# Altium footprint library ATK-2014-09-12.PcbLib: 436 footprints (part 19 of 28)
Each footprint in its own frame and in the unit in brackets; x right, y up, seen from the top. Pads: shape width x height; smd on the part's side, far side on the other; paste and mask are expansions set on the pad; w line width, h text height; cw(c..) or ccw(c..) is an arc to the next point about the centre after c.
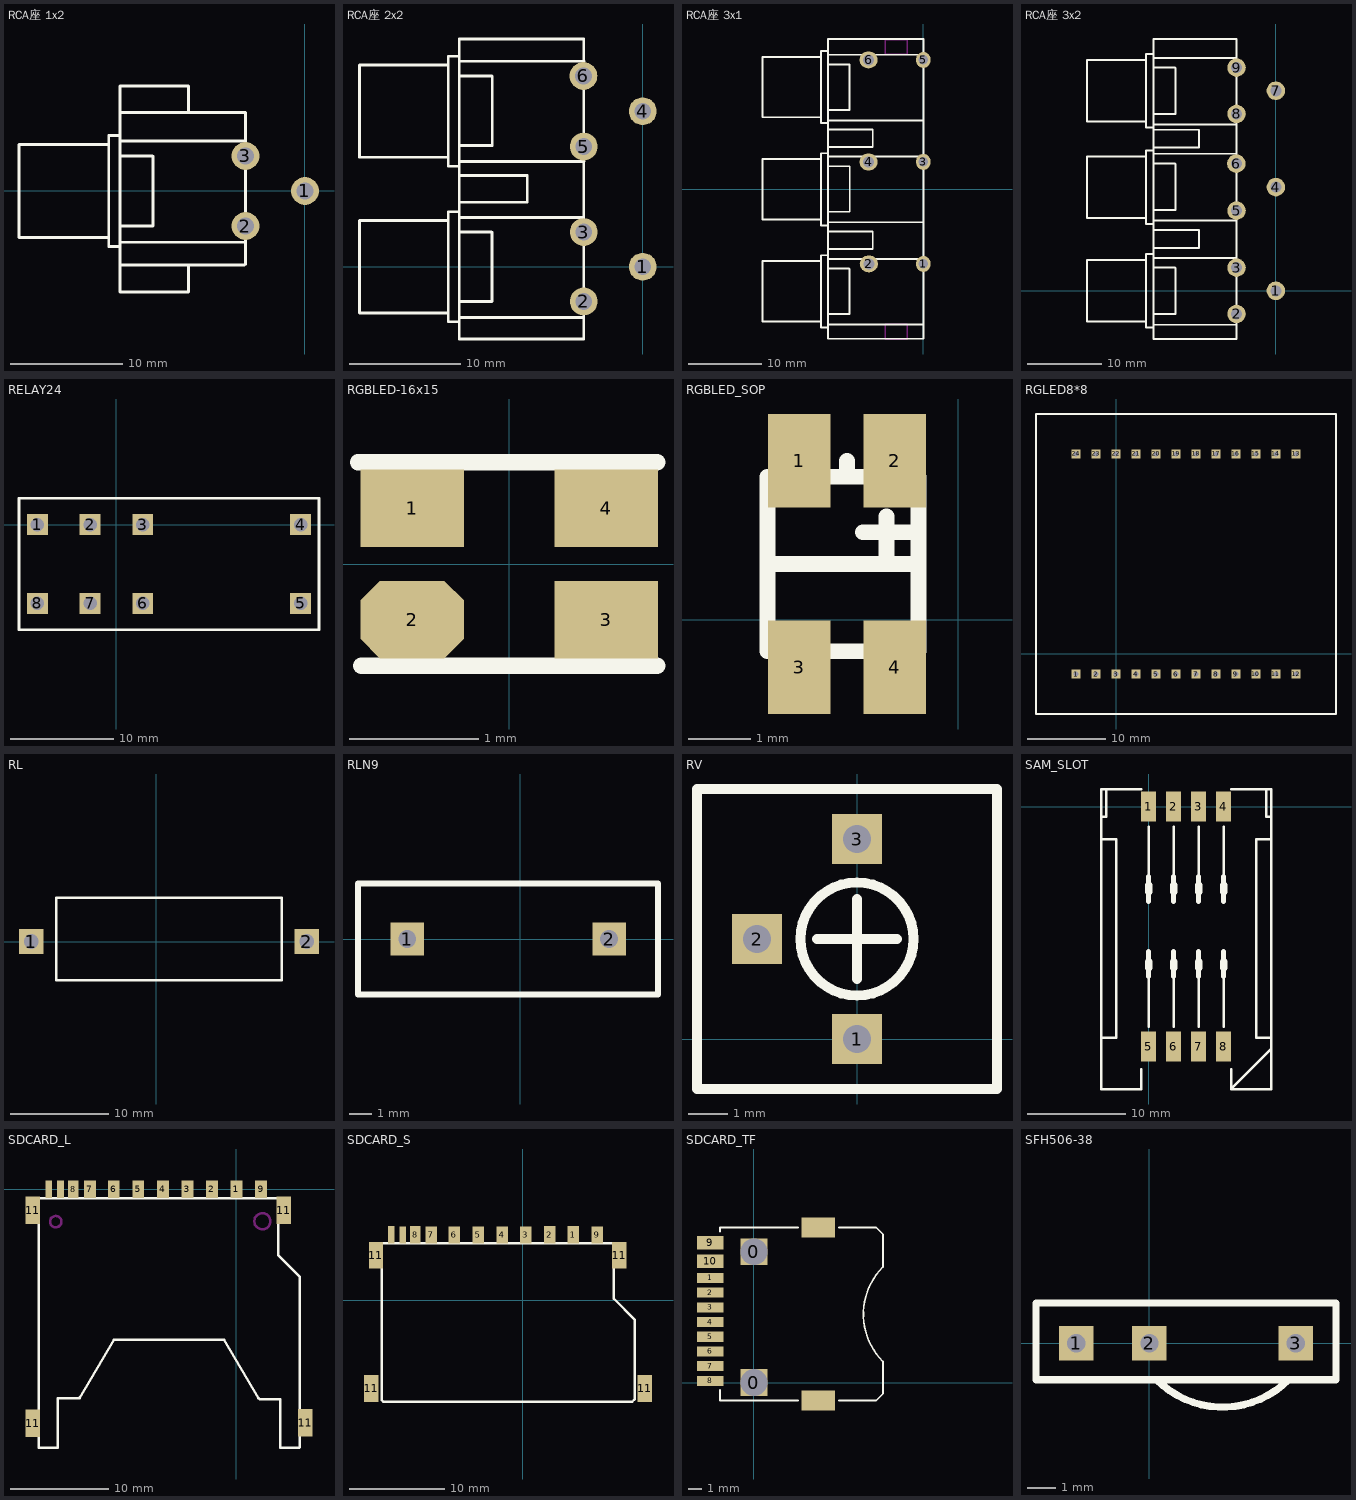
[diagram p18: the footprints below, top view; thin cyan lines are the x and y axes]

## RCA座 1x2 [mm]
pads (3):
  round 2.5 hole 1.5: 1(0,0) 2(-5.309,-3.124) 3(-5.309,3.124)
Top Overlay:
  lines w0.254: -25.502,-4.15 -17.501,-4.15 ; -25.502,-4.14 -25.502,4.14 ; -25.502,4.15 -17.501,4.15 ; -16.51,-9.017 -16.51,-6.579 ; -16.51,-9.008 -10.389,-9.008 ; -16.51,-6.608 -10.389,-6.608 ; -16.51,-4.953 -17.501,-4.953 -17.501,4.953 -16.51,4.953 ; -16.51,3.124 -13.614,3.124 ; -16.51,4.445 -5.309,4.445 ; -16.51,6.96 -16.51,9.373 ; -16.51,9.368 -10.389,9.368 ; -16.485,-4.572 -5.309,-4.572 ; -16.459,-3.124 -13.589,-3.124 ; -13.564,-3.124 -13.564,3.099 ; -10.389,-8.992 -10.389,-6.604 ; -10.389,6.985 -10.389,9.373 ; -5.359,6.985 -16.51,6.985 -16.51,-6.604 -5.385,-6.604 -5.309,-6.528 -5.309,6.985

## RCA座 2x2 [mm]
pads (6):
  round 2.5 hole 1.5: 1(0,0) 2(-5.309,-3.124) 3(-5.309,3.124) 4(0,13.995) 5(-5.309,10.82) 6(-5.334,17.17)
Top Overlay:
  lines w0.254: -25.502,-4.15 -17.501,-4.15 ; -25.502,-4.14 -25.502,4.14 ; -25.502,4.15 -17.501,4.15 ; -25.502,9.85 -17.501,9.85 ; -25.502,9.855 -25.502,18.136 ; -25.502,18.15 -17.501,18.15 ; -16.51,-6.502 -5.334,-6.502 ; -16.51,-6.5 -16.51,20.5 ; -16.51,-4.953 -17.501,-4.953 -17.501,4.953 -16.51,4.953 ; -16.51,3.124 -13.614,3.124 ; -16.51,4.445 -5.309,4.445 ; -16.51,5.8 -10.389,5.8 ; -16.51,8.2 -10.389,8.2 ; -16.51,9.042 -17.501,9.042 -17.501,18.948 -16.51,18.948 ; -16.51,20.498 -5.334,20.498 ; -16.485,-4.572 -5.309,-4.572 ; -16.485,17.17 -13.589,17.17 ; -16.485,18.491 -5.283,18.491 ; -16.459,-3.124 -13.589,-3.124 ; -16.459,9.474 -5.283,9.474 ; -16.434,10.922 -13.564,10.922 ; -13.564,-3.124 -13.564,3.099 ; -13.538,10.922 -13.538,17.145 ; -10.389,5.817 -10.389,8.204 ; -5.309,-6.5 -5.309,20.5

## RCA座 3x1 [mm]
pads (6):
  oval 2x2.2 hole 1.3: 1(0,-10.262) 3(0,3.759) 5(0,17.755)
  oval 2.5x2.3 hole 1.5: 2(-7.493,-10.262) 4(-7.518,3.734) 6(-7.518,17.755)
Top Overlay:
  lines w0.254: -22.073,-18.171 -14.072,-18.171 ; -22.073,-18.161 -22.073,-9.881 ; -22.073,-9.871 -14.072,-9.871 ; -22.073,-4.171 -14.072,-4.171 ; -22.073,-4.166 -22.073,4.115 ; -22.073,4.129 -14.072,4.129 ; -22.073,9.871 -14.072,9.871 ; -22.073,9.881 -22.073,18.161 ; -22.073,18.171 -14.072,18.171 ; -13.081,-18.974 -14.072,-18.974 -14.072,-9.068 -13.081,-9.068 ; -13.081,-10.897 -10.185,-10.897 ; -13.081,-9.576 -0.076,-9.576 ; -13.081,-8.221 -6.96,-8.221 ; -13.081,-5.821 -6.96,-5.821 ; -13.081,-4.978 -14.072,-4.978 -14.072,4.928 -13.081,4.928 ; -13.081,5.791 -6.96,5.791 ; -13.081,6.477 -13.081,20.625 0,20.625 0,9.398 ; -13.081,6.479 -13.081,-20.549 0,-20.549 0,9.449 ; -13.081,8.204 -6.96,8.204 -6.96,5.817 ; -13.081,9.068 -14.072,9.068 -14.072,18.974 -13.081,18.974 ; -13.081,17.145 -10.185,17.145 ; -13.081,18.466 -0.051,18.466 ; -13.056,-18.593 -0.076,-18.593 ; -13.056,3.15 -10.16,3.15 ; -13.056,4.47 -0.102,4.47 ; -13.056,9.449 -0.102,9.449 ; -13.03,-17.145 -10.16,-17.145 ; -13.03,-4.547 -0.076,-4.547 ; -13.03,10.897 -10.16,10.897 ; -13.005,-3.099 -10.135,-3.099 ; -10.135,-17.145 -10.135,-10.922 ; -10.135,10.897 -10.135,17.12 ; -10.109,-3.099 -10.109,3.124 ; -6.96,-8.204 -6.96,-5.817
Keep-Out Layer:
  lines w0.2: -5.258,20.523 -5.258,18.517 -2.235,18.517 -2.235,20.523 ; -5.25,20.519 -2.25,20.519 ; -5.258,-20.574 -5.258,-18.542 -2.21,-18.542 -2.21,-20.574 -5.258,-20.574

## RCA座 3x2 [mm]
pads (9):
  round 2.5 hole 1.5: 1(0,0) 2(-5.309,-3.124) 3(-5.309,3.124) 4(0,13.995) 5(-5.309,10.82) 6(-5.334,17.17) 7(0,27) 8(-5.309,23.876) 9(-5.309,30.124)
Top Overlay:
  lines w0.254: -25.502,-4.15 -17.501,-4.15 ; -25.502,-4.14 -25.502,4.14 ; -25.502,4.15 -17.501,4.15 ; -25.502,9.85 -17.501,9.85 ; -25.502,9.855 -25.502,18.136 ; -25.502,18.15 -17.501,18.15 ; -25.502,22.85 -17.501,22.85 ; -25.502,22.86 -25.502,31.14 ; -25.502,31.15 -17.501,31.15 ; -16.51,-6.502 -5.334,-6.502 ; -16.51,-6.5 -16.51,20.5 ; -16.51,-4.953 -17.501,-4.953 -17.501,4.953 -16.51,4.953 ; -16.51,3.124 -13.614,3.124 ; -16.51,4.445 -5.309,4.445 ; -16.51,5.8 -10.389,5.8 ; -16.51,8.2 -10.389,8.2 ; -16.51,9.042 -17.501,9.042 -17.501,18.948 -16.51,18.948 ; -16.51,19.338 -10.389,19.338 ; -16.51,20.498 -16.51,33.985 -5.309,33.985 -5.309,20.498 ; -16.51,21.738 -10.389,21.738 ; -16.51,22.047 -17.501,22.047 -17.501,31.953 -16.51,31.953 ; -16.51,30.124 -13.614,30.124 ; -16.51,31.445 -5.309,31.445 ; -16.485,-4.572 -5.309,-4.572 ; -16.485,17.17 -13.589,17.17 ; -16.485,18.491 -5.283,18.491 ; -16.485,22.428 -5.309,22.428 ; -16.459,-3.124 -13.589,-3.124 ; -16.459,9.474 -5.283,9.474 ; -16.459,23.876 -13.589,23.876 ; -16.434,10.922 -13.564,10.922 ; -13.564,-3.124 -13.564,3.099 ; -13.564,23.876 -13.564,30.099 ; -13.538,10.922 -13.538,17.145 ; -10.389,5.817 -10.389,8.204 ; -10.389,19.355 -10.389,21.742 ; -5.309,-6.5 -5.309,20.5

## RELAY24 [mm] "HRM1H-S-DC34V-C"
height 20
pads (8):
  rect 2x2 hole 1.3: 1(-7.62,0) 2(-2.54,0) 3(2.54,0) 4(17.78,0) 5(17.78,-7.62) 6(2.54,-7.62) 7(-2.54,-7.62) 8(-7.62,-7.62)
Top Overlay:
  lines w0.254: -9.398,-10.16 -9.398,2.54 19.558,2.54 19.558,-10.16 -9.398,-10.16

## RGBLED-16x15 [mm] "RGBLED  16x15"
pads (4):
  rect 0.8x0.6 smd: 1(-0.75,0.43) 3(0.75,-0.43) 4(0.75,0.43)
  oct 0.8x0.6 smd: 2(-0.75,-0.43)
Top Overlay:
  lines w0.127: -1.168,0.787 1.143,0.787 ; -1.143,-0.787 1.143,-0.787

## RGBLED_SOP [mm] "SOP_RGB"
height 1
pads (4):
  rect 1x1.5 smd: 1(-2.54,2.54) 2(-1.016,2.54) 3(-2.54,-0.762) 4(-1.016,-0.762)
Top Overlay:
  lines w0.254: -3.048,0.889 -0.635,0.889 ; -1.778,2.286 -1.778,2.54 ; -1.524,1.397 -0.635,1.397 ; -1.143,0.889 -1.143,1.397 -1.143,1.651 ; -3.048,-0.508 -3.048,0.127 -3.048,1.778 -3.048,2.286 -0.635,2.286 -0.635,-0.508 -3.048,-0.508

## RGLED8*8 [mm]
height 8
pads (24):
  rect 1.2x1.2 hole 0.635: 1(-5.08,-2.54) 2(-2.54,-2.54) 3(0,-2.54) 4(2.54,-2.54) 5(5.08,-2.54) 6(7.62,-2.54) 7(10.16,-2.54) 8(12.7,-2.54) 9(15.24,-2.54) 10(17.78,-2.54) 11(20.32,-2.54) 12(22.86,-2.54) 13(22.86,25.4) 14(20.32,25.4) 15(17.78,25.4) 16(15.24,25.4) 17(12.7,25.4) 18(10.16,25.4) 19(7.62,25.4) 20(5.08,25.4) 21(2.54,25.4) 22(0,25.4) 23(-2.54,25.4) 24(-5.08,25.4)
Top Overlay:
  lines w0.254: -10.16,-7.62 27.94,-7.62 27.94,30.48 -7.62,30.48 -10.16,30.48 -10.16,-7.62

## RL [mm] "10o/0.7uH"
height 15
pads (2):
  rect 2.5x2.5 hole 1.5: 1(-12.7,0) 2(15.24,0)
Top Overlay:
  lines w0.254: -10.16,-3.937 -5.08,-3.937 7.62,-3.937 12.7,-3.937 12.7,4.445 -10.16,4.445 -10.16,-3.937

## RLN9 [mm] "13.5mm*5.1mm"
height 18.2
pads (2):
  rect 1.5x1.5 hole 0.8: 1(-5.08,0) 2(4,0)
Top Overlay:
  lines w0.254: -7.3,-2.5 6.2,-2.5 6.2,2.5 -7.3,2.5 -7.3,-2.5

## RV [mil]
pads (3):
  rect 50x50 hole 28: 1(0,0) 2(-100,100) 3(0,200)
Top Overlay:
  circle w10: c0,100 r56.57
  lines w10: -40,100 40,100 ; 0,60 0,140 ; -160,-50 140,-50 140,250 -160,250 -160,-50

## SAM_SLOT [mil]
pads (8):
  rect 60x120 smd: 1(0,0) 2(100,0) 3(200,0) 4(300,0) 5(0,-960) 6(100,-960) 7(200,-960) 8(300,-960)
Top Overlay:
  lines w10: -190,-925 -130,-925 -130,-130 -190,-130 ; -190,-40 -170,-40 -170,70 ; -30,-1050 -30,-1130 -190,-1130 -190,70 -30,70 ; 0,-880 0,-580 ; 0,-380 0,-80 ; 100,-880 100,-580 ; 100,-380 100,-80 ; 200,-880 200,-580 ; 200,-380 200,-80 ; 300,-880 300,-580 ; 300,-380 300,-80 ; 330,-1050 330,-1130 ; 330,70 490,70 490,-1130 330,-1130 ; 470,70 470,-40 490,-40 ; 490,-970 330,-1130 ; 490,-925 430,-925 430,-130 490,-130
  lines w20: 0,-680 0,-580 ; 0,-380 0,-280 ; 100,-680 100,-580 ; 100,-380 100,-280 ; 200,-680 200,-580 ; 200,-380 200,-280 ; 300,-680 300,-580 ; 300,-380 300,-280
  lines w30: 0,-645 0,-620 ; 0,-340 0,-315 ; 100,-645 100,-620 ; 100,-340 100,-315 ; 200,-645 200,-620 ; 200,-340 200,-315 ; 300,-645 300,-620 ; 300,-340 300,-315

## SDCARD_L [mm] "SDCARD_LARGE"
height 1
pads (15):
  rect 1.2x1.8 smd: 1(0,0) 2(-2.489,0) 3(-4.983,-0.009) 4(-7.483,-0.009) 5(-9.983,-0.009) 6(-12.483,-0.009) 7(-14.908,-0.009) 9(2.517,-0.009)
  rect 1.1x1.8 smd: 8(-16.612,0)
  rect 0.7x1.8 smd: 10(-17.908,-0.009) 12(-19.101,0)
  rect 1.5x2.8 smd: 11(-20.726,-23.834) 11(-20.726,-2.143) 11(4.826,-2.143) 11(7.01,-23.784)
Top Overlay:
  lines w0.254: -18.158,-21.3 -18.158,-26.3 -20.131,-26.3 -20.131,-0.914 -20.117,-0.9 4.242,-0.9 4.242,-6.71 6.431,-8.899 6.442,-8.899 6.442,-26.273 6.415,-26.3 4.442,-26.3 4.442,-21.402 2.4,-21.402 2.242,-21.244 ; -18.107,-21.294 -16.065,-21.294 -15.907,-21.136 ; -15.958,-21.294 -12.446,-15.3 ; -12.458,-15.3 -1.258,-15.3 2.242,-21.294
Keep-Out Layer:
  circle w0.254: c-18.39,-3.3 r0.58
  circle w0.254: c2.642,-3.26 r0.82

## SDCARD_S [mm] "SDCARD_SMALL"
height 1.524
pads (15):
  rect 1.2x1.8 smd: 1(5.334,6.867) 2(2.845,6.867) 3(0.351,6.858) 4(-2.149,6.858) 5(-4.649,6.858) 6(-7.149,6.858) 7(-9.574,6.858) 9(7.851,6.858)
  rect 1.1x1.8 smd: 8(-11.278,6.867)
  rect 0.7x1.8 smd: 10(-12.574,6.858) 12(-13.767,6.867)
  rect 1.5x2.8 smd: 11(-15.875,-9.271) 11(-15.392,4.724) 11(10.16,4.724) 11(12.827,-9.271)
Top Overlay:
  lines w0.254: -14.797,5.953 -14.783,5.967 ; -14.783,5.967 -14.783,-10.49 -14.605,-10.668 11.522,-10.668 11.776,-10.414 11.776,-2.032 11.765,-2.032 9.576,0.157 9.576,5.967 -14.783,5.967
Multi-Layer:
  circle w0.254: c7.976,3.607 r0.82
  circle w0.254: c-13.056,3.567 r0.58

## SDCARD_TF [mm] "TFCARD"
height 1
pads (14):
  rect 2x2 hole 2: 0(0,-0.002) 0(0,9.777)
  rect 2x0.75 smd: 1(-3.26,7.827) 2(-3.26,6.727) 3(-3.26,5.627) 4(-3.26,4.527) 5(-3.26,3.427) 6(-3.26,2.327) 7(-3.26,1.227) 8(-3.26,0.127)
  rect 2x1 smd: 9(-3.26,10.463) 10(-3.26,9.079)
  rect 2.5x1.5 smd: ""(4.826,-1.348) ""(4.826,11.606)
Top Overlay:
  lines w0.127: -2.54,-1.348 3.302,-1.348 ; -2.54,11.301 -2.54,11.606 3.302,11.606 ; -2.535,-1.348 -2.535,-0.548 ; 6.35,-1.348 9.144,-1.348 9.652,-0.84 9.652,1.319 9.652,1.573 cw(c13.188,5.109) 9.652,8.644 9.652,11.098 9.144,11.606 6.35,11.606

## SFH506-38 [mm]
height 3.81
pads (3):
  rect 1.2x1.2 hole 0.635: 1(-2.54,0) 2(0,0) 3(5.08,0)
Top Overlay:
  lines w0.254: -3.81,1.397 -1.905,1.397 ; -3.429,1.397 -3.937,1.397 -3.937,-1.27 6.223,-1.27 ; -3.302,1.397 6.35,1.397 ; -2.413,-1.27 6.477,-1.27 6.477,1.397 5.461,1.397 ; 0.254,-1.27 ccw(c2.54,1.016) 4.826,-1.27